# Altium footprint library Analog IC.PcbLib: 27 footprints (part 1 of 2)
Each footprint in its own frame and in the unit in brackets; x right, y up, seen from the top. Pads: shape width x height; smd on the part's side, far side on the other; paste and mask are expansions set on the pad; w line width, h text height; cw(c..) or ccw(c..) is an arc to the next point about the centre after c.
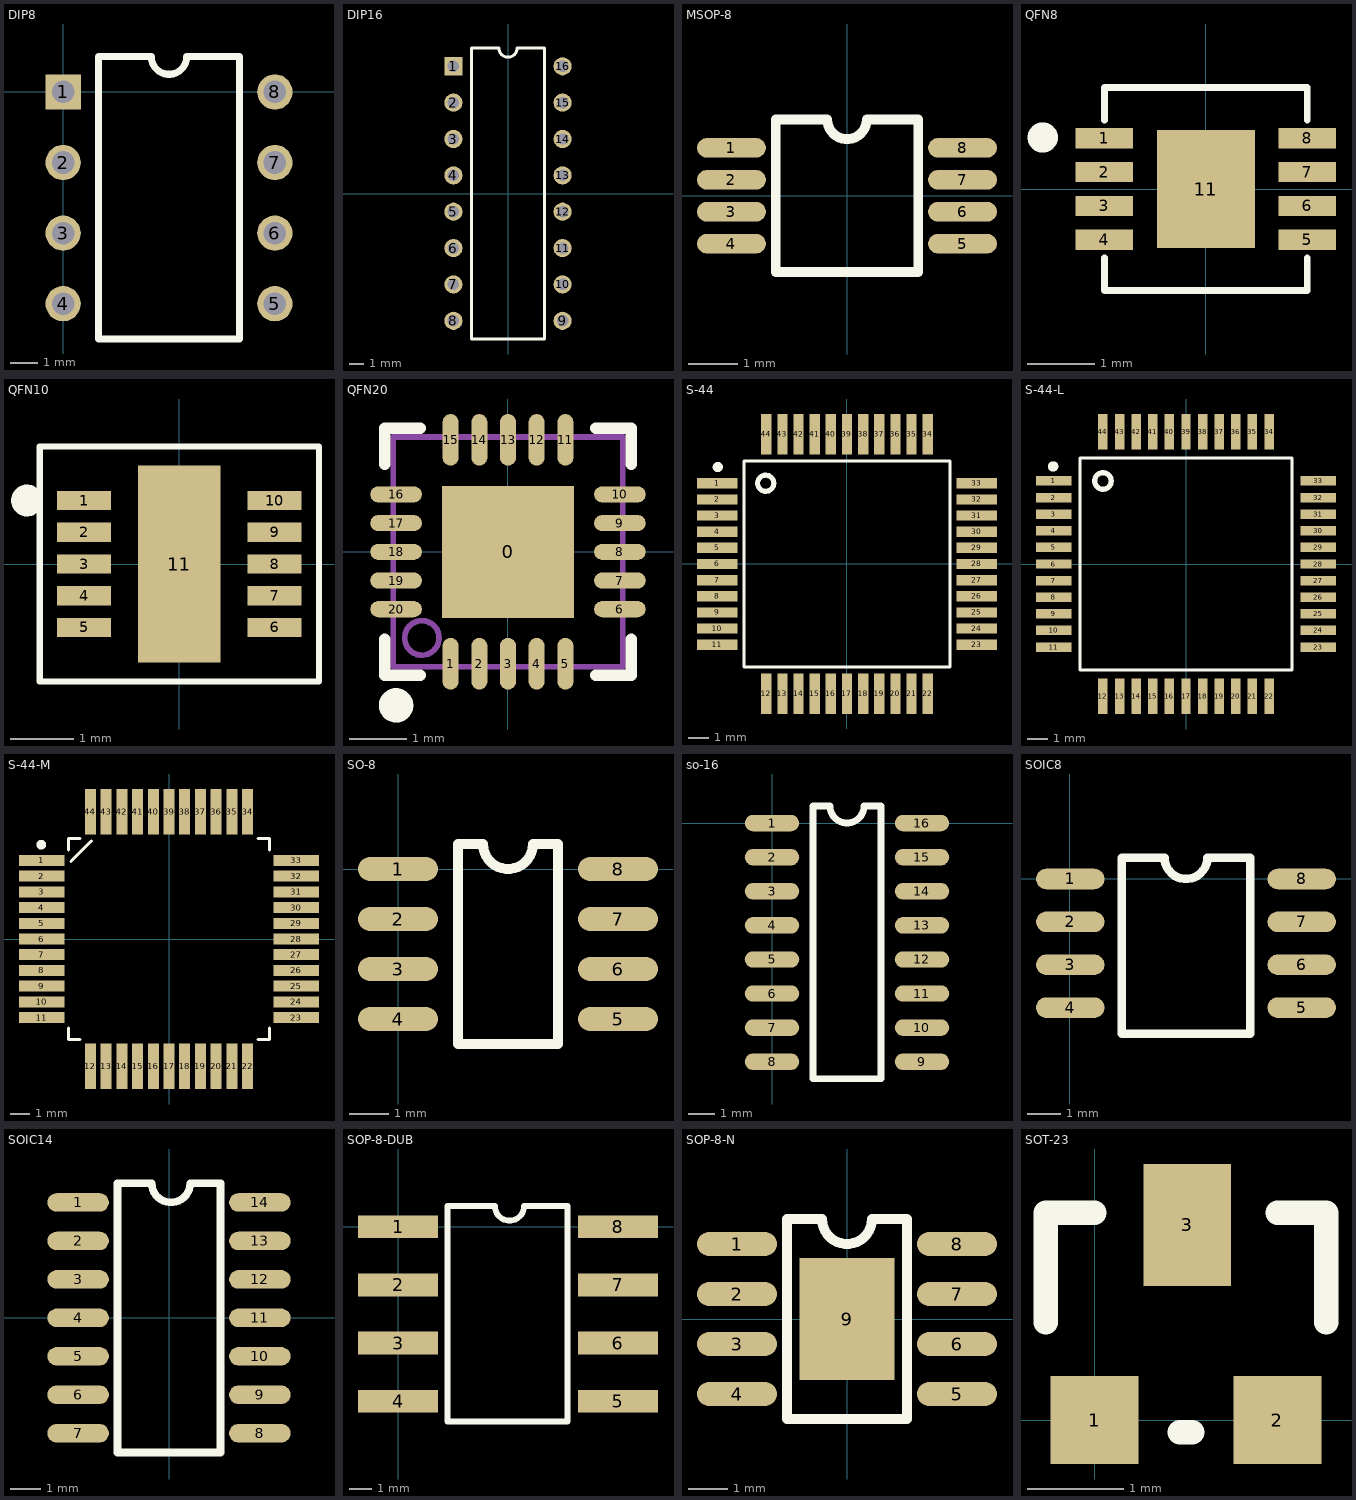
[diagram p0: the footprints below, top view; thin cyan lines are the x and y axes]

## DIP8 [mil] "DIP8"
pads (8):
  rect 50x50 hole 32: 1(0,0)
  round 50 hole 32: 2(0,-100) 3(0,-200) 4(0,-300) 5(300,-300) 6(300,-200) 7(300,-100) 8(300,0)
Top Overlay:
  lines w10: 50,-350 50,50 125,50 ccw(c150,50) 175,50 250,50 250,-350 50,-350

## DIP16 [mm]
pads (16):
  rect 1.27x1.27 hole 0.8: 1(-3.81,8.89)
  round 1.27 hole 0.8: 2(-3.81,6.35) 3(-3.81,3.81) 4(-3.81,1.27) 5(-3.81,-1.27) 6(-3.81,-3.81) 7(-3.81,-6.35) 8(-3.81,-8.89) 9(3.81,-8.89) 10(3.81,-6.35) 11(3.81,-3.81) 12(3.81,-1.27) 13(3.81,1.27) 14(3.81,3.81) 15(3.81,6.35) 16(3.81,8.89)
Top Overlay:
  lines w0.203: -2.54,-10.16 2.54,-10.16 2.54,10.16 0.635,10.16 cw(c0,10.16) -0.635,10.16 -2.54,10.16 -2.54,-10.16

## MSOP-8 [mm] "MSOP-8"
pads (8):
  oval 1.4x0.4 smd: 1(-2.35,0.975) 2(-2.35,0.325) 3(-2.35,-0.325) 4(-2.35,-0.975) 5(2.35,-0.975) 6(2.35,-0.325) 7(2.35,0.325) 8(2.35,0.975)
Top Overlay:
  lines w0.2: -0.455,1.55 -1.45,1.55 -1.45,-1.55 1.45,-1.55 1.45,1.55 0.4,1.55 cw(c0,1.55) -0.4,1.55

## QFN8 [mm] "QFN-8"
pads (9):
  rect 0.85x0.3 smd: 1(-1.5,0.75) 2(-1.5,0.25) 3(-1.5,-0.25) 4(-1.5,-0.75) 5(1.5,-0.75) 6(1.5,-0.25) 7(1.5,0.25) 8(1.5,0.75)
  rect 1.45x1.74 smd: 11(0,0)
Top Overlay:
  circle w0.25: c-2.413,0.762 r0.1
  lines w0.1: -1.5,-1.016 -1.5,-1.5 1.5,-1.5 1.5,-1.016 ; -1.5,1.016 -1.5,1.5 1.5,1.5 1.5,1.016
Mechanical 15:
  text "1" at 0.45,-0.164 h0.75

## QFN10 [mm] "m, 3 × mm 3"
pads (11):
  rect 0.85x0.3 smd: 1(-1.5,1) 2(-1.5,0.5) 3(-1.5,0) 4(-1.5,-0.5) 5(-1.5,-1) 6(1.5,-1) 7(1.5,-0.5) 8(1.5,0) 9(1.5,0.5) 10(1.5,1)
  rect 1.3x3.1 smd: 11(0,0)
Top Overlay:
  circle w0.25: c-2.4,1 r0.125
  lines w0.1: -2.2,-1.85 2.2,-1.85 2.2,1.85 -2.2,1.85 -2.2,-1.85
Mechanical 15:
  text "1" at 0.45,-0.164 h0.75

## QFN20 [mm] "LC-QFN-20_4x4x05P"
pads (21):
  rect 2.3x2.3 smd mask+0.051: 0(0,0)
  oval 0.28x0.9 smd mask+0.051: 1(-1,-1.95) 2(-0.5,-1.95) 3(0,-1.95) 4(0.5,-1.95) 5(1,-1.95) 11(1,1.95) 12(0.5,1.95) 13(0,1.95) 14(-0.5,1.95) 15(-1,1.95)
  oval 0.9x0.28 smd mask+0.051: 6(1.95,-1) 7(1.95,-0.5) 8(1.95,0) 9(1.95,0.5) 10(1.95,1) 16(-1.95,1) 17(-1.95,0.5) 18(-1.95,0) 19(-1.95,-0.5) 20(-1.95,-1)
Top Overlay:
  circle w0.3: c-1.95,-2.675 r0.15
  lines w0.2: -2.15,-1.525 -2.15,-2.15 -1.525,-2.15 ; -2.15,1.525 -2.15,2.15 -1.525,2.15 ; 1.525,-2.15 2.15,-2.15 2.15,-1.525 ; 1.525,2.15 2.15,2.15 2.15,1.525
Mechanical 13:
  circle w0.1: c-1.5,-1.5 r0.3
  lines w0.1: -2,-2 2,-2 2,2 -2,2 -2,-2

## S-44 [mil]
pads (44):
  rect 79x20 smd mask+4: 1(-253,157.48) 2(-253,125.98) 3(-253,94.49) 4(-253,62.99) 5(-253,31.5) 6(-253,0) 7(-253,-31.5) 8(-253,-62.99) 9(-253,-94.49) 10(-253,-125.98) 11(-253,-157.48) 23(253,-157.48) 24(253,-125.98) 25(253,-94.49) 26(253,-62.99) 27(253,-31.5) 28(253,0) 29(253,31.5) 30(253,62.99) 31(253,94.49) 32(253,125.98) 33(253,157.48)
  rect 20x79 smd mask+4: 12(-157.48,-253) 13(-125.98,-253) 14(-94.49,-253) 15(-62.99,-253) 16(-31.5,-253) 17(0,-253) 18(31.5,-253) 19(62.99,-253) 20(94.49,-253) 21(125.98,-253) 22(157.48,-253) 34(157.48,253) 35(125.98,253) 36(94.49,253) 37(62.99,253) 38(31.5,253) 39(0,253) 40(-31.5,253) 41(-62.99,253) 42(-94.49,253) 43(-125.98,253) 44(-157.48,253)
Top Overlay:
  circle w9.84: c-158.46,157.48 r15.75
  circle w9.84: c-251.97,188.98 r4.92
  lines w5.98: -201,-171.4 -201,171.4 ; -171.4,-201 171.4,-201 ; -171.4,201 171.4,201 ; 201,-171.4 201,171.4
  lines w6: -201,-171.4 -201,-201 -171.4,-201 ; -201,171.4 -201,201 -171.4,201 ; 171.4,-201 201,-201 201,-171.4 ; 171.4,201 201,201 201,171.4

## S-44-L [mil]
pads (44):
  rect 67x18 smd: 1(-251,157.48) 2(-251,125.98) 3(-251,94.49) 4(-251,62.99) 5(-251,31.5) 6(-251,0) 7(-251,-31.5) 8(-251,-62.99) 9(-251,-94.49) 10(-251,-125.98) 11(-251,-157.48) 23(251,-157.48) 24(251,-125.98) 25(251,-94.49) 26(251,-62.99) 27(251,-31.5) 28(251,0) 29(251,31.5) 30(251,62.99) 31(251,94.49) 32(251,125.98) 33(251,157.48)
  rect 18x67 smd: 12(-157.48,-251) 13(-125.98,-251) 14(-94.49,-251) 15(-62.99,-251) 16(-31.5,-251) 17(0,-251) 18(31.5,-251) 19(62.99,-251) 20(94.49,-251) 21(125.98,-251) 22(157.48,-251) 34(157.48,251) 35(125.98,251) 36(94.49,251) 37(62.99,251) 38(31.5,251) 39(0,251) 40(-31.5,251) 41(-62.99,251) 42(-94.49,251) 43(-125.98,251) 44(-157.48,251)
Top Overlay:
  circle w9.84: c-251.97,185.04 r4.92
  circle w9.84: c-157.48,157.48 r15.75
  lines w6: -201,-201 201,-201 201,201 -201,201 -201,-201

## S-44-M [mil]
pads (44):
  rect 91x22 smd mask+5: 1(-255,157.48) 2(-255,125.98) 3(-255,94.49) 4(-255,62.99) 5(-255,31.5) 6(-255,0) 7(-255,-31.5) 8(-255,-62.99) 9(-255,-94.49) 10(-255,-125.98) 11(-255,-157.48) 23(255,-157.48) 24(255,-125.98) 25(255,-94.49) 26(255,-62.99) 27(255,-31.5) 28(255,0) 29(255,31.5) 30(255,62.99) 31(255,94.49) 32(255,125.98) 33(255,157.48)
  rect 22x91 smd mask+5: 12(-157.48,-255) 13(-125.98,-255) 14(-94.49,-255) 15(-62.99,-255) 16(-31.5,-255) 17(0,-255) 18(31.5,-255) 19(62.99,-255) 20(94.49,-255) 21(125.98,-255) 22(157.48,-255) 34(157.48,255) 35(125.98,255) 36(94.49,255) 37(62.99,255) 38(31.5,255) 39(0,255) 40(-31.5,255) 41(-62.99,255) 42(-94.49,255) 43(-125.98,255) 44(-157.48,255)
Top Overlay:
  circle w9.84: c-255.91,188.98 r4.92
  lines w6: -201,-178.45 -201,-201 -178.45,-201 ; -201,178.45 -201,201 -178.45,201 ; -196.4,155.6 -155.6,196.4 ; 178.45,-201 201,-201 201,-178.45 ; 178.45,201 201,201 201,178.45

## SO-8 [mil]
pads (8):
  oval 80x24 smd: 1(0,0) 2(0,-50) 3(0,-100) 4(0,-150) 5(220,-150) 6(220,-100) 7(220,-50) 8(220,0)
Top Overlay:
  lines w10: 60,-175 160,-175 160,25 135,25 cw(c110,25) 85,25 60,25 60,-175

## so-16 [mil]
height 27.56
pads (16):
  oval 80x24 smd: 1(0,0) 2(0,-50) 3(0,-100) 4(0,-150) 5(0,-200) 6(0,-250) 7(0,-300) 8(0,-350) 9(220,-350) 10(220,-300) 11(220,-250) 12(220,-200) 13(220,-150) 14(220,-100) 15(220,-50) 16(220,0)
Top Overlay:
  lines w10: 60,-375 60,25 85,25 ccw(c110,25) 135,25 160,25 160,-375 60,-375

## SOIC8 [mil]
pads (8):
  oval 80x24 smd: 1(0.45,-0.09) 2(0.45,-50.09) 3(0.45,-100.09) 4(0.45,-150.09) 5(270.45,-150.09) 6(270.45,-100.09) 7(270.45,-50.09) 8(270.45,-0.09)
Top Overlay:
  lines w10: 60.45,-180.57 60.45,24.91 110.45,24.91 ccw(c135.45,24.91) 160.45,24.91 210.45,24.91 210.45,-180.57 60.45,-180.57

## SOIC14 [mil]
height 27.56
pads (14):
  oval 80x24 smd: 1(-118.11,150) 2(-118.11,100) 3(-118.11,50) 4(-118.11,0) 5(-118.11,-50) 6(-118.11,-100) 7(-118.11,-150) 8(118.11,-150) 9(118.11,-100) 10(118.11,-50) 11(118.11,0) 12(118.11,50) 13(118.11,100) 14(118.11,150)
Top Overlay:
  lines w10: -66.93,-175 66.93,-175 66.93,175 27.56,175 cw(c2.56,175) -22.44,175 -66.93,175 -66.93,-175

## SOP-8-DUB [mm]
pads (8):
  rect 3.5x1 smd: 1(0,0) 2(0,-2.54) 3(0,-5.08) 4(0,-7.62) 5(9.6,-7.62) 6(9.6,-5.08) 7(9.6,-2.54) 8(9.6,0)
Top Overlay:
  lines w0.254: 2.159,-8.5 7.4,-8.5 7.4,0.9 5.5,0.9 cw(c4.865,0.9) 4.23,0.9 2.159,0.9 2.159,-8.5

## SOP-8-N [mil]
pads (9):
  oval 80x24 smd: 1(-110,75) 2(-110,25) 3(-110,-25) 4(-110,-75) 5(110,-75) 6(110,-25) 7(110,25) 8(110,75)
  rect 95.28x122.05 smd: 9(0,0)
Top Overlay:
  lines w10: -60,-100 -60,100 -25,100 ccw(c0,100) 25,100 60,100 60,-100 -60,-100

## SOT-23 [mil]
pads (3):
  rect 36x36 smd: 1(0,0) 2(75,0)
  rect 36x50 smd: 3(38,80)
Top Overlay:
  lines w10: -20,40 -20,85 0,85 ; 35,-5 40,-5 ; 75,85 95,85 95,40